# EAGLE library part SEDA_NIXIE (library my_mixed)
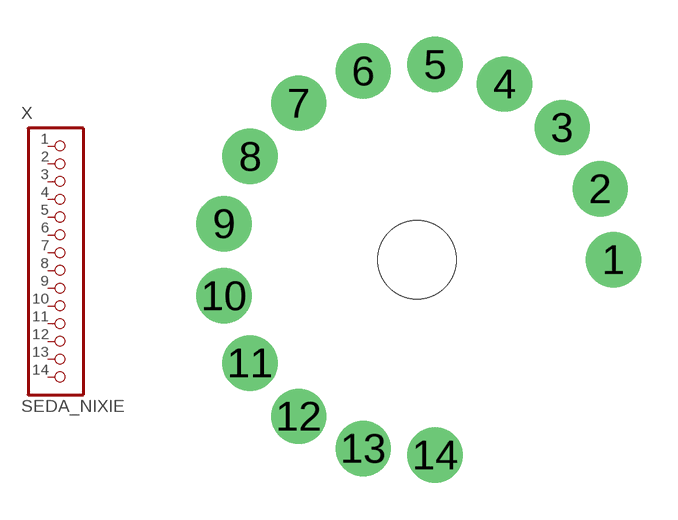
[diagram p16: symbol with the pads of SEDA_NIXIE_SOCKET; footprint SEDA_NIXIE_SOCKET]

Designator prefix X

## SEDA_NIXIE  [SEDA_NIXIE_SOCKET]
1  1
2  2
3  3
4  4
5  5
6  6
7  7
8  8
9  9
10  10
11  11
12  12
13  13
14  14

## Footprint SEDA_NIXIE_SOCKET (pad centres in mm)
drill 1.5: 1 8,0; 2 7.46,2.89; 3 5.912,5.39; 4 3.566,7.161; 5 0.738,7.966; 6 -2.189,7.695; 7 -4.821,6.384; 8 -6.802,4.211; 9 -7.864,1.47; 10 -7.864,-1.47; 11 -6.802,-4.211; 12 -4.821,-6.384; 13 -2.189,-7.695; 14 0.738,-7.966
hole 3.2 at 0,0